# Altium schematic symbol library AIR208.SCHLIB: 1 symbol
Pins are listed as number, name and electrical type; pins without a type are passive.

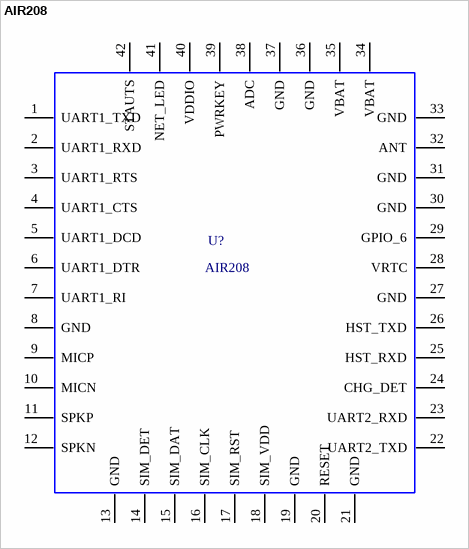
[diagram p0: symbol AIR208]

## AIR208
designator U?
Geometry.Height: 2.3 mm; PCB DECAL: AIR208
footprint Air208 (Footprint not found)
pins: 1 UART1_TXD, 2 UART1_RXD, 3 UART1_RTS, 4 UART1_CTS, 5 UART1_DCD, 6 UART1_DTR, 7 UART1_RI, 8 GND, 9 MICP, 10 MICN, 11 SPKP, 12 SPKN, 13 GND, 14 SIM_DET, 15 SIM_DAT, 16 SIM_CLK, 17 SIM_RST, 18 SIM_VDD, 19 GND, 20 RESET, 21 GND, 22 UART2_TXD, 23 UART2_RXD, 24 CHG_DET, 25 HST_RXD, 26 HST_TXD, 27 GND, 28 VRTC, 29 GPIO_6, 30 GND, 31 GND, 32 ANT, 33 GND, 34 VBAT, 35 VBAT, 36 GND, 37 GND, 38 ADC, 39 PWRKEY, 40 VDDIO, 41 NET_LED, 42 STAUTS